# Altium footprint library Diod.PcbLib: 392 footprints (part 17 of 25)
Each footprint in its own frame and in the unit in brackets; x right, y up, seen from the top. Pads: shape width x height; smd on the part's side, far side on the other; paste and mask are expansions set on the pad; w line width, h text height; cw(c..) or ccw(c..) is an arc to the next point about the centre after c.
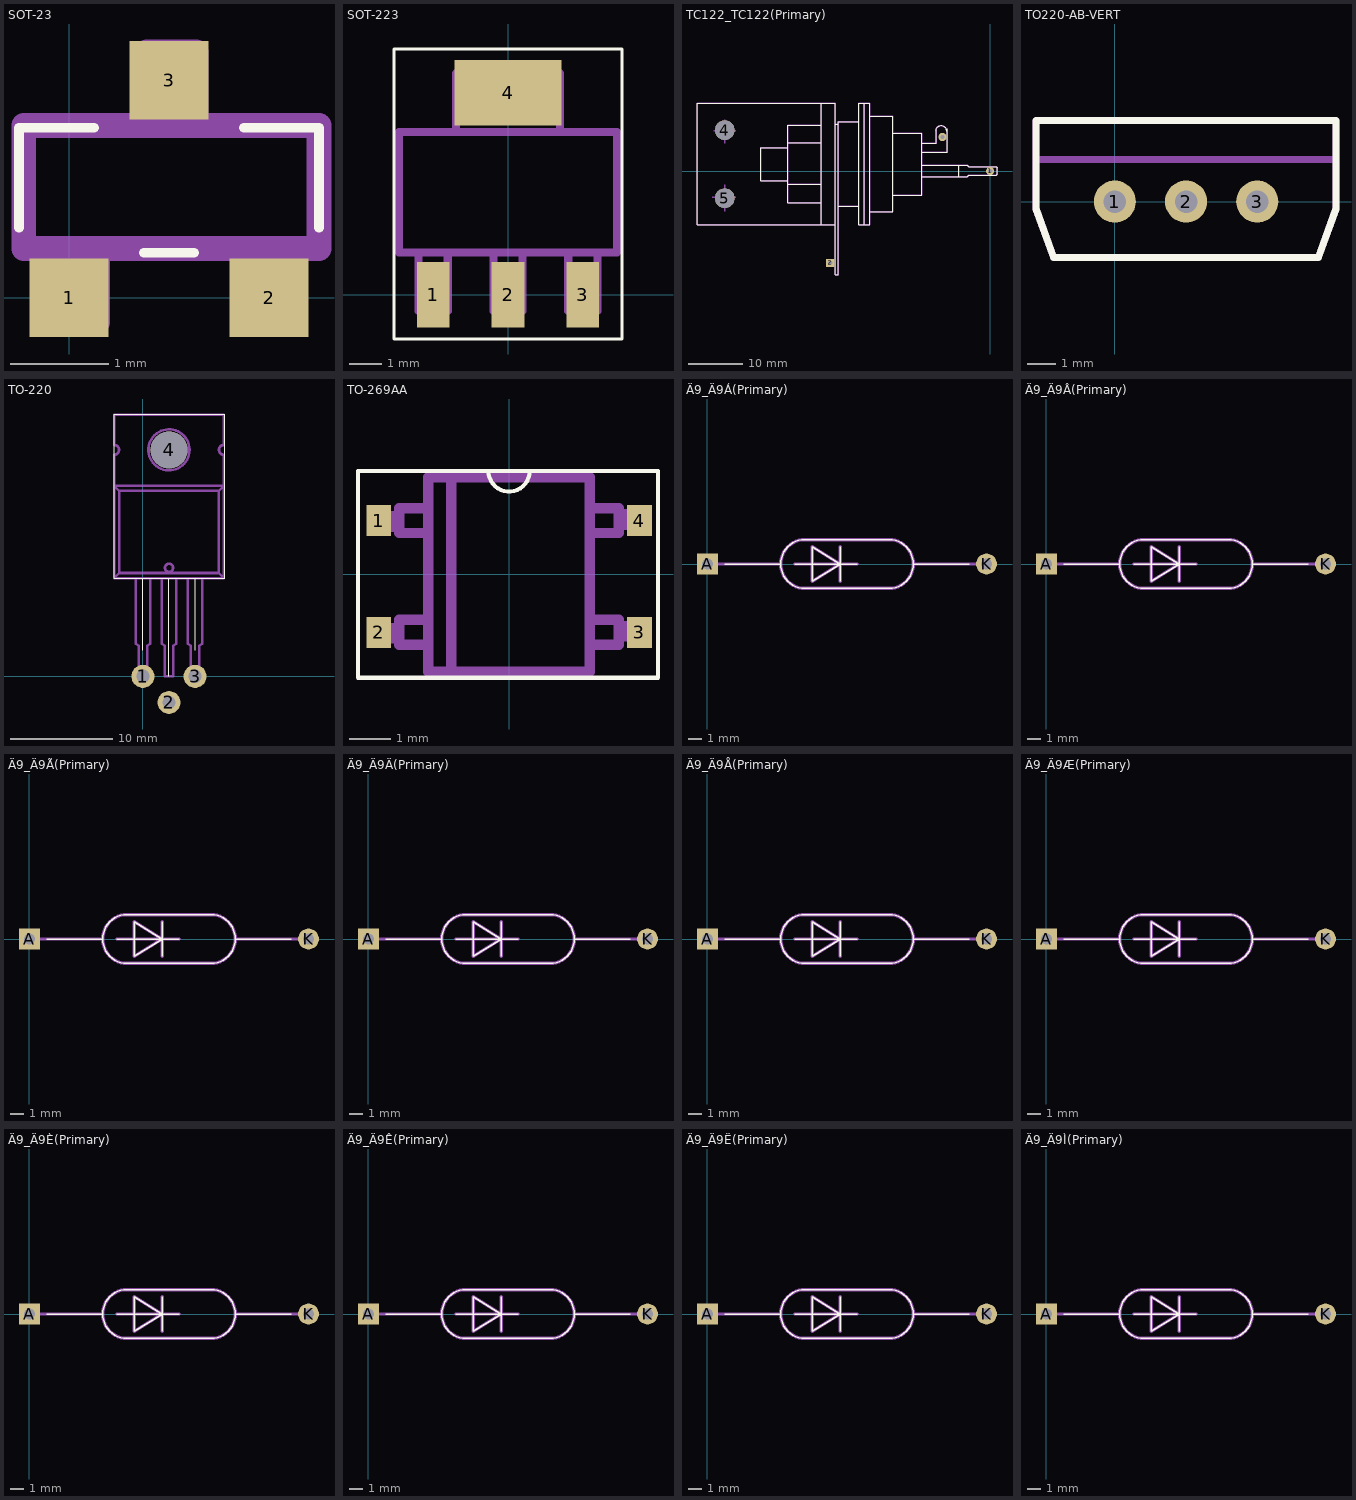
[diagram p16: the footprints below, top view; thin cyan lines are the x and y axes]

## SOT-23 [mm]
pads (3):
  rect 0.8x0.8 smd: 1(0,0) 2(2.032,0) 3(1.016,2.21)
Top Overlay:
  lines w0.1: -0.508,0.711 -0.508,1.727 0.254,1.727 ; 0.762,0.457 1.27,0.457 ; 1.778,1.727 2.54,1.727 2.54,0.711
Mechanical 1:
  lines w0.25: -0.21,0.5 -0.21,-0.25 0.29,-0.25 0.29,0.5 ; 0.79,1.75 0.79,2.5 1.29,2.5 1.29,1.75 ; 1.79,0.5 1.79,-0.25 2.29,-0.25 2.29,0.5 ; -0.46,0.5 2.54,0.5 2.54,1.75 -0.46,1.75 -0.46,0.5

## SOT-223 [mm]
pads (4):
  rect 1x2 smd: 1(-2.3,0) 2(0,0) 3(2.3,0)
  rect 3.3x2 smd: 4(0,6.2)
Top Overlay:
  lines w0.1: -3.5,-1.36 3.5,-1.36 3.5,7.54 -3.5,7.54 -3.5,-1.36
Mechanical 1:
  lines w0.25: -2.75,1.3 -2.75,-0.5 -1.85,-0.5 -1.85,1.3 ; -1.6,5.05 -1.6,6.8 1.6,6.8 1.6,5.05 ; -0.45,1.3 -0.45,-0.5 0.45,-0.5 0.45,1.3 ; 1.85,1.3 1.85,-0.5 2.75,-0.5 2.75,1.3 ; -3.35,1.3 3.35,1.3 3.35,5 -3.35,5 -3.35,1.3

## TC122_TC122(Primary) [mm]
pads (5):
  round 1.5 hole 0.8: 1(0,0) UE(-8.75,6.25)
  rect 1.5x1.5 hole 0.8: 2(-29.375,-16.875)
  round 3.6 hole 3.6 unplated: 4(-48.75,7.5) 5(-48.75,-5)
Top Overlay:
  circle w0.1: c0.003,-0.03 r0.463
  lines w0.1: -37.211,-2.413 -31.115,-2.413 ; -37.211,4.191 -37.211,-1.778 ; -37.084,5.207 -31.115,5.207 ; -28.448,-9.906 -30.988,-9.906 ; -27.94,-6.477 -24.13,-6.477 -24.13,9.017 -27.94,9.017 -27.94,8.509 ; -22.098,-7.493 -17.907,-7.493 -17.907,10.033 -22.098,10.033 ; -17.907,-4.445 -12.573,-4.445 -12.573,6.985 -17.907,6.985 ; -12.573,-1.016 -5.715,-1.016 ; -12.573,1.016 -5.715,1.016 ; -12.573,3.429 -7.874,3.429 -7.874,7.747 ; -12.573,5.08 -9.906,5.08 -9.906,7.747 ; -10.006,7.289 cw(c-8.99,7.287) -7.974,7.287 ; -37.211,-1.778 -42.164,-1.778 -42.164,4.318 -37.211,4.318 -37.211,8.382 -30.988,8.382 ; -37.211,-1.778 -37.211,-5.842 -30.988,-5.842 ; -30.988,-9.906 -53.848,-9.906 -53.848,12.446 -51.308,12.446 -30.988,12.446 ; -30.988,-9.906 -30.988,-5.842 ; -30.988,-5.842 -30.988,8.382 ; -30.988,8.382 -30.988,12.446 ; -30.988,12.446 -28.448,12.446 -28.448,8.636 ; -28.448,8.636 -28.448,-19.05 -27.94,-19.05 -27.94,8.636 -28.448,8.636 ; -23.114,-9.906 -23.114,12.446 ; -23.114,-9.906 -23.114,12.446 ; -23.114,-9.906 -22.098,-9.906 -22.098,12.446 -23.114,12.446 ; -23.114,-9.906 -24.13,-9.906 -24.13,12.446 -23.114,12.446 ; -5.715,-1.016 -5.715,1.016 ; -5.715,-1.016 -4.191,-1.016 -3.937,-0.762 1.143,-0.762 1.27,-0.635 1.27,0.635 1.143,0.762 -3.937,0.762 -4.191,1.016 -5.715,1.016
Mechanical 1:
  circle w0.25: c0.003,-0.03 r0.463
  lines w0.25: -51.054,-4.826 -46.736,-4.826 ; -50.8,7.366 -46.736,7.366 ; -48.768,-7.366 -48.768,-2.54 ; -48.768,5.08 -48.768,9.398 ; -37.211,-2.413 -31.115,-2.413 ; -37.211,4.191 -37.211,-1.778 ; -37.084,5.207 -31.115,5.207 ; -28.448,-9.906 -30.988,-9.906 ; -27.94,-6.477 -24.13,-6.477 -24.13,9.017 -27.94,9.017 -27.94,8.509 ; -22.098,-7.493 -17.907,-7.493 -17.907,10.033 -22.098,10.033 ; -17.907,-4.445 -12.573,-4.445 -12.573,6.985 -17.907,6.985 ; -12.573,-1.016 -5.715,-1.016 ; -12.573,1.016 -5.715,1.016 ; -12.573,3.429 -7.874,3.429 -7.874,7.747 ; -12.573,5.08 -9.906,5.08 -9.906,7.747 ; -10.006,7.289 cw(c-8.99,7.287) -7.974,7.287 ; -37.211,-1.778 -42.164,-1.778 -42.164,4.318 -37.211,4.318 -37.211,8.382 -30.988,8.382 ; -37.211,-1.778 -37.211,-5.842 -30.988,-5.842 ; -30.988,-9.906 -53.848,-9.906 -53.848,12.446 -51.308,12.446 -30.988,12.446 ; -30.988,-9.906 -30.988,-5.842 ; -30.988,-5.842 -30.988,8.382 ; -30.988,8.382 -30.988,12.446 ; -30.988,12.446 -28.448,12.446 -28.448,8.636 ; -28.448,8.636 -28.448,-19.05 -27.94,-19.05 -27.94,8.636 -28.448,8.636 ; -23.114,-9.906 -23.114,12.446 ; -23.114,-9.906 -23.114,12.446 ; -23.114,-9.906 -22.098,-9.906 -22.098,12.446 -23.114,12.446 ; -23.114,-9.906 -24.13,-9.906 -24.13,12.446 -23.114,12.446 ; -5.715,-1.016 -5.715,1.016 ; -5.715,-1.016 -4.191,-1.016 -3.937,-0.762 1.143,-0.762 1.27,-0.635 1.27,0.635 1.143,0.762 -3.937,0.762 -4.191,1.016 -5.715,1.016

## TO220-AB-VERT [mm]
pads (3):
  round 1.5 hole 0.8: 1(0,0) 2(2.54,0) 3(5.08,0)
Top Overlay:
  lines w0.25: -2.812,-0.252 -2.812,1.498 -2.812,2.898 7.888,2.898 7.888,1.498 7.888,-0.252 7.257,-2.002 -2.181,-2.002 -2.812,-0.252
Mechanical 1:
  lines w0.25: -2.812,1.498 7.888,1.498 ; -2.812,1.498 -2.812,2.898 7.888,2.898 7.888,1.498 ; -2.812,1.498 -2.812,-0.252 -2.181,-2.002 7.257,-2.002 7.888,-0.252 7.888,1.498

## TO-220 [mm]
pads (4):
  round 2.25 hole 1.3: 1(0,0) 2(2.54,-2.54) 3(5.08,0)
  round 3.6 hole 3.6 unplated: 4(2.55,22.07)
Top Overlay:
  lines w0.1: 0,2.54 0,9.576 ; 2.54,0 2.54,9.576 ; 5.08,2.54 5.08,9.576 ; -2.8,9.57 7.95,9.57 7.95,25.57 -2.8,25.57 -2.8,9.57
Mechanical 1:
  circle w0.25: c2.54,10.582 r0.397
  circle w0.25: c2.54,22.076 r2
  lines w0.25: -0.7,9.576 -0.7,3.176 -0.4,3.001 -0.4,0.001 0,0.001 0.4,0.001 0.4,3.001 0.7,3.176 0.7,9.576 ; 1.84,9.576 1.84,3.176 2.14,3.001 2.14,0.001 2.54,0.001 2.94,0.001 2.94,3.001 3.24,3.176 3.24,9.576 ; 4.38,9.576 4.38,3.176 4.68,3.001 4.68,0.001 5.08,0.001 5.48,0.001 5.48,3.001 5.78,3.176 5.78,9.576 ; -2.81,9.576 7.89,9.576 ; -2.81,9.576 -2.81,18.576 ; -2.81,9.576 -2.31,10.076 ; -2.81,18.576 7.89,18.576 ; -2.81,18.576 -2.81,21.595 ccw(c-2.81,22.076) -2.81,22.557 -2.81,25.476 7.89,25.476 7.89,22.557 ccw(c7.89,22.076) 7.89,21.595 7.89,18.576 ; -2.81,18.576 -2.31,18.076 ; -2.31,10.076 7.39,10.076 ; -2.31,10.076 -2.31,18.076 ; -2.31,18.076 7.39,18.076 ; 7.39,10.076 7.39,18.076 ; 7.39,10.076 7.89,9.576 ; 7.39,18.076 7.89,18.576 ; 7.89,9.576 7.89,18.576
  text "2" at 2.15,11.27 h0.94
  text "3" at 4.55,10.32 h0.94
  text "1" at -0.4,10.32 h0.94

## TO-269AA [mm]
pads (4):
  rect 0.6x0.75 smd: 1(-3.15,1.3) 2(-3.15,-1.4) 3(3.15,-1.4) 4(3.15,1.3)
Top Overlay:
  lines w0.1: -0.5,2.5 ccw(c0,2.5) 0.5,2.5 ; -3.65,-2.5 3.6,-2.5 3.6,2.5 -3.65,2.5 -3.65,-2.5
Mechanical 1:
  lines w0.25: -2.65,-1.55 -3,-1.55 -3,-1.3 -2.65,-1.3 ; -2.65,1.15 -3,1.15 -3,1.4 -2.65,1.4 ; -1.95,-1.7 -2.65,-1.7 -2.65,-1.1 -1.95,-1.1 ; -1.95,1 -2.65,1 -2.65,1.6 -1.95,1.6 ; -1.4,-2.35 -1.4,2.35 ; 1.95,-1.7 2.65,-1.7 2.65,-1.1 1.95,-1.1 ; 1.95,1 2.65,1 2.65,1.6 1.95,1.6 ; 2.65,-1.5 3,-1.5 3,-1.25 2.65,-1.25 ; 2.65,1.2 3,1.2 3,1.45 2.65,1.45 ; -1.95,-2.35 1.95,-2.35 1.95,2.35 -1.95,2.35 -1.95,-2.35

## Ä9_Ä9Á(Primary) [mm]
pads (2):
  rect 1.5x1.5 hole 0.8: A(0,0)
  round 1.5 hole 0.8: K(20,0)
Top Overlay:
  lines w0.1: 1.25,0 5.25,0 ; 6.25,0 10.75,0 ; 9.5,-1.25 9.5,1.25 ; 14.75,0 18.75,0 ; 7,-1.75 cw(c7,0) 7,1.75 13,1.75 cw(c13,0) 13,-1.75 7,-1.75 ; 7.5,-1.25 7.5,1.25 9.5,0 7.5,-1.25
Mechanical 1:
  lines w0.25: 0,0 5.25,0 ; 6.25,0 10.75,0 ; 9.5,-1.25 9.5,1.25 ; 14.75,0 20,0 ; 7,-1.75 cw(c7,0) 7,1.75 13,1.75 cw(c13,0) 13,-1.75 7,-1.75 ; 7.5,-1.25 7.5,1.25 9.5,0 7.5,-1.25

## Ä9_Ä9Â(Primary) [mm]
pads (2):
  rect 1.5x1.5 hole 0.8: A(0,0)
  round 1.5 hole 0.8: K(20,0)
Top Overlay:
  lines w0.1: 1.25,0 5.25,0 ; 6.25,0 10.75,0 ; 9.5,-1.25 9.5,1.25 ; 14.75,0 18.75,0 ; 7,-1.75 cw(c7,0) 7,1.75 13,1.75 cw(c13,0) 13,-1.75 7,-1.75 ; 7.5,-1.25 7.5,1.25 9.5,0 7.5,-1.25
Mechanical 1:
  lines w0.25: 0,0 5.25,0 ; 6.25,0 10.75,0 ; 9.5,-1.25 9.5,1.25 ; 14.75,0 20,0 ; 7,-1.75 cw(c7,0) 7,1.75 13,1.75 cw(c13,0) 13,-1.75 7,-1.75 ; 7.5,-1.25 7.5,1.25 9.5,0 7.5,-1.25

## Ä9_Ä9Ã(Primary) [mm]
pads (2):
  rect 1.5x1.5 hole 0.8: A(0,0)
  round 1.5 hole 0.8: K(20,0)
Top Overlay:
  lines w0.1: 1.25,0 5.25,0 ; 6.25,0 10.75,0 ; 9.5,-1.25 9.5,1.25 ; 14.75,0 18.75,0 ; 7,-1.75 cw(c7,0) 7,1.75 13,1.75 cw(c13,0) 13,-1.75 7,-1.75 ; 7.5,-1.25 7.5,1.25 9.5,0 7.5,-1.25
Mechanical 1:
  lines w0.25: 0,0 5.25,0 ; 6.25,0 10.75,0 ; 9.5,-1.25 9.5,1.25 ; 14.75,0 20,0 ; 7,-1.75 cw(c7,0) 7,1.75 13,1.75 cw(c13,0) 13,-1.75 7,-1.75 ; 7.5,-1.25 7.5,1.25 9.5,0 7.5,-1.25

## Ä9_Ä9Ä(Primary) [mm]
pads (2):
  rect 1.5x1.5 hole 0.8: A(0,0)
  round 1.5 hole 0.8: K(20,0)
Top Overlay:
  lines w0.1: 1.25,0 5.25,0 ; 6.25,0 10.75,0 ; 9.5,-1.25 9.5,1.25 ; 14.75,0 18.75,0 ; 7,-1.75 cw(c7,0) 7,1.75 13,1.75 cw(c13,0) 13,-1.75 7,-1.75 ; 7.5,-1.25 7.5,1.25 9.5,0 7.5,-1.25
Mechanical 1:
  lines w0.25: 0,0 5.25,0 ; 6.25,0 10.75,0 ; 9.5,-1.25 9.5,1.25 ; 14.75,0 20,0 ; 7,-1.75 cw(c7,0) 7,1.75 13,1.75 cw(c13,0) 13,-1.75 7,-1.75 ; 7.5,-1.25 7.5,1.25 9.5,0 7.5,-1.25

## Ä9_Ä9Å(Primary) [mm]
pads (2):
  rect 1.5x1.5 hole 0.8: A(0,0)
  round 1.5 hole 0.8: K(20,0)
Top Overlay:
  lines w0.1: 1.25,0 5.25,0 ; 6.25,0 10.75,0 ; 9.5,-1.25 9.5,1.25 ; 14.75,0 18.75,0 ; 7,-1.75 cw(c7,0) 7,1.75 13,1.75 cw(c13,0) 13,-1.75 7,-1.75 ; 7.5,-1.25 7.5,1.25 9.5,0 7.5,-1.25
Mechanical 1:
  lines w0.25: 0,0 5.25,0 ; 6.25,0 10.75,0 ; 9.5,-1.25 9.5,1.25 ; 14.75,0 20,0 ; 7,-1.75 cw(c7,0) 7,1.75 13,1.75 cw(c13,0) 13,-1.75 7,-1.75 ; 7.5,-1.25 7.5,1.25 9.5,0 7.5,-1.25

## Ä9_Ä9Æ(Primary) [mm]
pads (2):
  rect 1.5x1.5 hole 0.8: A(0,0)
  round 1.5 hole 0.8: K(20,0)
Top Overlay:
  lines w0.1: 1.25,0 5.25,0 ; 6.25,0 10.75,0 ; 9.5,-1.25 9.5,1.25 ; 14.75,0 18.75,0 ; 7,-1.75 cw(c7,0) 7,1.75 13,1.75 cw(c13,0) 13,-1.75 7,-1.75 ; 7.5,-1.25 7.5,1.25 9.5,0 7.5,-1.25
Mechanical 1:
  lines w0.25: 0,0 5.25,0 ; 6.25,0 10.75,0 ; 9.5,-1.25 9.5,1.25 ; 14.75,0 20,0 ; 7,-1.75 cw(c7,0) 7,1.75 13,1.75 cw(c13,0) 13,-1.75 7,-1.75 ; 7.5,-1.25 7.5,1.25 9.5,0 7.5,-1.25

## Ä9_Ä9È(Primary) [mm]
pads (2):
  rect 1.5x1.5 hole 0.8: A(0,0)
  round 1.5 hole 0.8: K(20,0)
Top Overlay:
  lines w0.1: 1.25,0 5.25,0 ; 6.25,0 10.75,0 ; 9.5,-1.25 9.5,1.25 ; 14.75,0 18.75,0 ; 7,-1.75 cw(c7,0) 7,1.75 13,1.75 cw(c13,0) 13,-1.75 7,-1.75 ; 7.5,-1.25 7.5,1.25 9.5,0 7.5,-1.25
Mechanical 1:
  lines w0.25: 0,0 5.25,0 ; 6.25,0 10.75,0 ; 9.5,-1.25 9.5,1.25 ; 14.75,0 20,0 ; 7,-1.75 cw(c7,0) 7,1.75 13,1.75 cw(c13,0) 13,-1.75 7,-1.75 ; 7.5,-1.25 7.5,1.25 9.5,0 7.5,-1.25

## Ä9_Ä9Ê(Primary) [mm]
pads (2):
  rect 1.5x1.5 hole 0.8: A(0,0)
  round 1.5 hole 0.8: K(20,0)
Top Overlay:
  lines w0.1: 1.25,0 5.25,0 ; 6.25,0 10.75,0 ; 9.5,-1.25 9.5,1.25 ; 14.75,0 18.75,0 ; 7,-1.75 cw(c7,0) 7,1.75 13,1.75 cw(c13,0) 13,-1.75 7,-1.75 ; 7.5,-1.25 7.5,1.25 9.5,0 7.5,-1.25
Mechanical 1:
  lines w0.25: 0,0 5.25,0 ; 6.25,0 10.75,0 ; 9.5,-1.25 9.5,1.25 ; 14.75,0 20,0 ; 7,-1.75 cw(c7,0) 7,1.75 13,1.75 cw(c13,0) 13,-1.75 7,-1.75 ; 7.5,-1.25 7.5,1.25 9.5,0 7.5,-1.25

## Ä9_Ä9Ë(Primary) [mm]
pads (2):
  rect 1.5x1.5 hole 0.8: A(0,0)
  round 1.5 hole 0.8: K(20,0)
Top Overlay:
  lines w0.1: 1.25,0 5.25,0 ; 6.25,0 10.75,0 ; 9.5,-1.25 9.5,1.25 ; 14.75,0 18.75,0 ; 7,-1.75 cw(c7,0) 7,1.75 13,1.75 cw(c13,0) 13,-1.75 7,-1.75 ; 7.5,-1.25 7.5,1.25 9.5,0 7.5,-1.25
Mechanical 1:
  lines w0.25: 0,0 5.25,0 ; 6.25,0 10.75,0 ; 9.5,-1.25 9.5,1.25 ; 14.75,0 20,0 ; 7,-1.75 cw(c7,0) 7,1.75 13,1.75 cw(c13,0) 13,-1.75 7,-1.75 ; 7.5,-1.25 7.5,1.25 9.5,0 7.5,-1.25

## Ä9_Ä9Ì(Primary) [mm]
pads (2):
  rect 1.5x1.5 hole 0.8: A(0,0)
  round 1.5 hole 0.8: K(20,0)
Top Overlay:
  lines w0.1: 1.25,0 5.25,0 ; 6.25,0 10.75,0 ; 9.5,-1.25 9.5,1.25 ; 14.75,0 18.75,0 ; 7,-1.75 cw(c7,0) 7,1.75 13,1.75 cw(c13,0) 13,-1.75 7,-1.75 ; 7.5,-1.25 7.5,1.25 9.5,0 7.5,-1.25
Mechanical 1:
  lines w0.25: 0,0 5.25,0 ; 6.25,0 10.75,0 ; 9.5,-1.25 9.5,1.25 ; 14.75,0 20,0 ; 7,-1.75 cw(c7,0) 7,1.75 13,1.75 cw(c13,0) 13,-1.75 7,-1.75 ; 7.5,-1.25 7.5,1.25 9.5,0 7.5,-1.25